# EAGLE library part YM2413 (library oldschool)
The YM2413, aka OPLL, is a cost-reduced FM synthesis sound chip manufactured by Yamaha Corporation and based on their YM3812 (OPL2). To make the chip cheaper to manufacture, many of the internal registers were removed. The result of this is that the YM2413 can only play one user-defined instrument at a time; the other 15 instrument settings are hard-coded and cannot be altered by the user. There were other cost-cutting modifications: the number of waveforms was reduced to two, and the channels are not mixed using an adder; instead, the chip's DAC uses time-division multiplexing to play short segments of each channel in sequence, as also done in the YM2612.
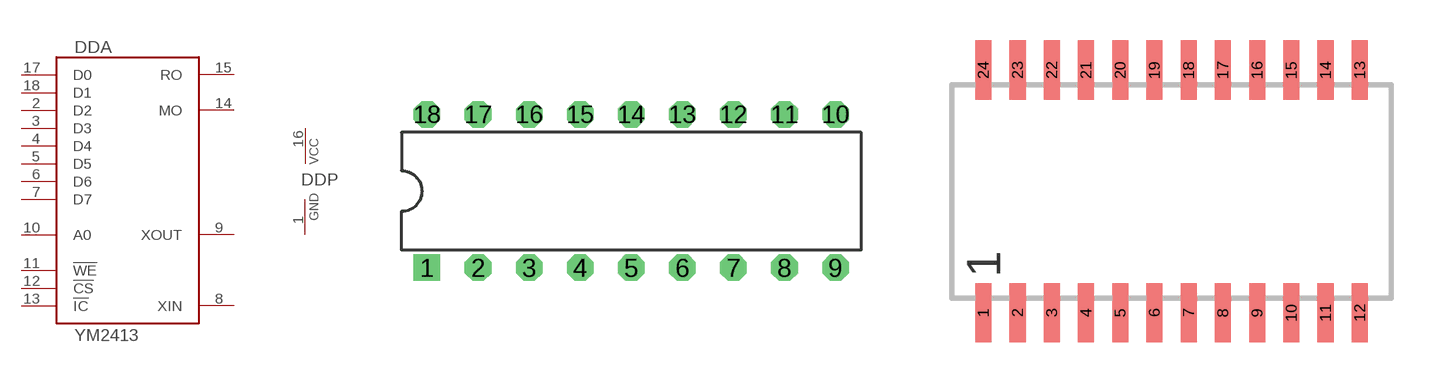
[diagram p0: symbol with the pads of DIL18; footprints DIL18, SOP24]

Designator prefix DD; gates A=OPLL P=PWRN

## YM2413  [DIL18]
1  P:GND  pwr
2  A:D2
3  A:D3
4  A:D4
5  A:D5
6  A:D6
7  A:D7
8  A:XIN  in
9  A:XOUT  out
10  A:A0  in
11  A:!WE  in
12  A:!CS  in
13  A:!IC  in
14  A:MO  out
15  A:RO  out
16  P:VCC  pwr
17  A:D0
18  A:D1

## YM2413-F  [SOP24]
1  P:GND  pwr
2  A:D2
3  A:D3
4  A:D4
5  A:D5
7  A:D6
9  A:D7
10  A:XIN  in
11  A:XOUT  out
13  A:A0  in
14  A:!WE  in
15  A:!CS  in
17  A:!IC  in
19  A:MO  out
20  A:RO  out
21  P:VCC  pwr
23  A:D0
24  A:D1

## Footprint DIL18 (pad centres in mm)
Dual In Line Package
drill 0.813 square: 1 -10.16,-3.81
drill 0.813 octagon: 2 -7.62,-3.81; 3 -5.08,-3.81; 4 -2.54,-3.81; 5 0,-3.81; 6 2.54,-3.81; 7 5.08,-3.81; 8 7.62,-3.81; 9 10.16,-3.81; 10 10.16,3.81; 11 7.62,3.81; 12 5.08,3.81; 13 2.54,3.81; 14 0,3.81; 15 -2.54,3.81; 16 -5.08,3.81; 17 -7.62,3.81; 18 -10.16,3.81

## Footprint SOP24 (pad centres in mm)
SMALL OUTLINE PACKAGE
smd 0.6 x 2.2: 1 -6.985,-4.5; 2 -5.715,-4.5; 3 -4.445,-4.5; 4 -3.175,-4.5; 5 -1.905,-4.5; 6 -0.635,-4.5; 7 0.635,-4.5; 8 1.905,-4.5; 9 3.175,-4.5; 10 4.445,-4.5; 11 5.715,-4.5; 12 6.985,-4.5; 13 6.985,4.5; 14 5.715,4.5; 15 4.445,4.5; 16 3.175,4.5; 17 1.905,4.5; 18 0.635,4.5; 19 -0.635,4.5; 20 -1.905,4.5; 21 -3.175,4.5; 22 -4.445,4.5; 23 -5.715,4.5; 24 -6.985,4.5